# Altium footprint library Switch_E-Switch_KS-01Q-01_eec.PcbLib: 1 footprints
Each footprint in its own frame and in the unit in brackets; x right, y up, seen from the top. Pads: shape width x height; smd on the part's side, far side on the other; paste and mask are expansions set on the pad; w line width, h text height; cw(c..) or ccw(c..) is an arc to the next point about the centre after c.
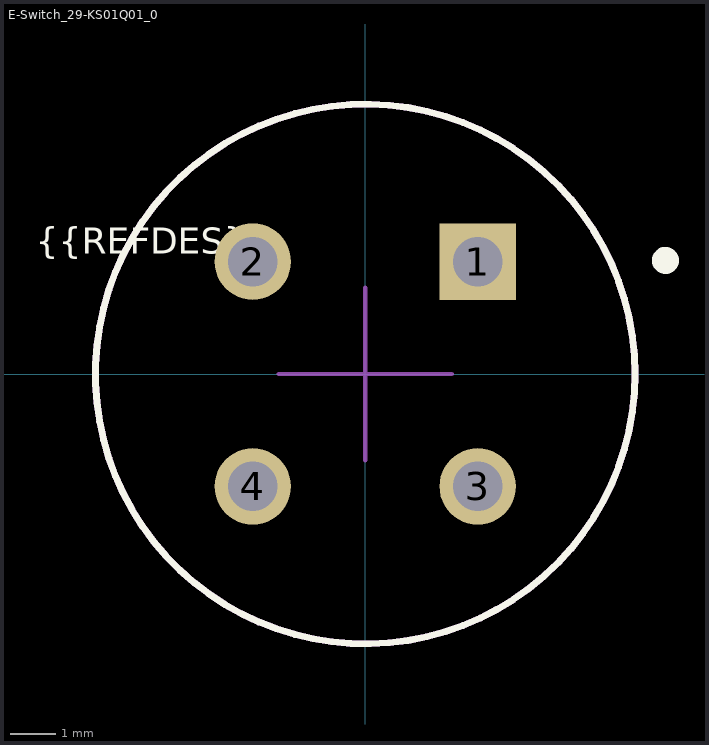
[diagram p0: the footprint, top view; thin cyan lines are the x and y axes]

## E-Switch_29-KS01Q01_0 [mm]
pads (4):
  rect 1.7x1.7 hole 1.1 paste-1000 mask+0: 1(2.5,2.5)
  round 1.7 hole 1.1 paste-1000 mask+0: 2(-2.5,2.5) 3(2.5,-2.5) 4(-2.5,-2.5)
Top Overlay:
  circle w0.3: c6.675,2.525 r0.15
  circle w0.15: c0,0 r6
  text "{{REFDES}}" at -7.325,2.475 h1
Mechanical 12:
  circle w0.15: c0,0 r6
Mechanical 15:
  lines w0.1: -1.92,0 1.92,0 ; 0,-1.92 0,1.92
3D body "3dmodel.step": height 0.25, standoff 0